# Altium footprint library ESPModule.PcbLib: 1 footprints
Each footprint in its own frame and in the unit in brackets; x right, y up, seen from the top. Pads: shape width x height; smd on the part's side, far side on the other; paste and mask are expansions set on the pad; w line width, h text height; cw(c..) or ccw(c..) is an arc to the next point about the centre after c.
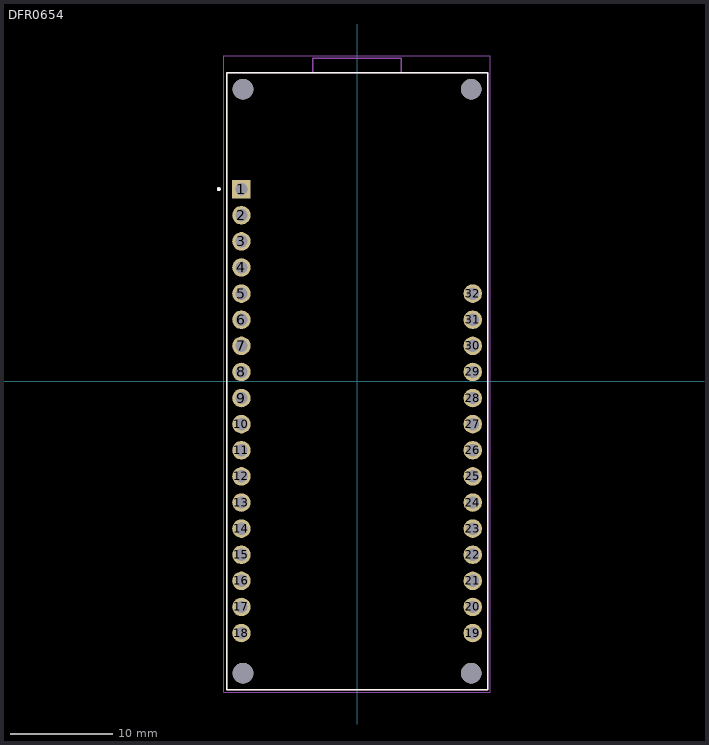
[diagram p0: the footprint, top view; thin cyan lines are the x and y axes]

## DFR0654 [mm] "FIREBEETLE ESP32-E IOT MICROCONT"
pads (36):
  rect 1.8x1.8 hole 1.2: 1(-11.25,18.68)
  round 1.8 hole 1.2: 2(-11.25,16.14) 3(-11.25,13.6) 4(-11.25,11.06) 5(-11.25,8.52) 6(-11.25,5.98) 7(-11.25,3.44) 8(-11.25,0.9) 9(-11.25,-1.64) 10(-11.25,-4.18) 11(-11.25,-6.72) 12(-11.25,-9.26) 13(-11.25,-11.8) 14(-11.25,-14.34) 15(-11.25,-16.88) 16(-11.25,-19.42) 17(-11.25,-21.96) 18(-11.25,-24.5) 19(11.25,-24.5) 20(11.25,-21.96) 21(11.25,-19.42) 22(11.25,-16.88) 23(11.25,-14.34) 24(11.25,-11.8) 25(11.25,-9.26) 26(11.25,-6.72) 27(11.25,-4.18) 28(11.25,-1.64) 29(11.25,0.9) 30(11.25,3.44) 31(11.25,5.98) 32(11.25,8.52)
  round 2 hole 2 unplated: ""(-11.1,-28.4) ""(-11.1,28.4) ""(11.1,-28.4) ""(11.1,28.4)
Top Overlay:
  circle w0.2: c-13.45,18.68 r0.1
  lines w0.127: -12.7,-30 -12.7,30 12.7,30 12.7,-30 -12.7,-30
Mechanical 13:
  circle w0.2: c-13.45,18.68 r0.1
  lines w0.127: -4.3,30 -12.7,30 -12.7,-30 12.7,-30 12.7,30 4.3,30 ; -4.3,30 -4.3,31.4 4.3,31.4 4.3,30 ; -4.3,30 4.3,30
Mechanical 15:
  lines w0.05: -12.95,-30.25 -12.95,31.65 12.95,31.65 12.95,-30.25 -12.95,-30.25
3D body "step_temp.STEP": height 12.2, standoff 5.1, extent -12.7,-30.319 12.7,31.081
3D body "18-Pin Header - Female - 2.54mm.step": height 5, standoff -3, extent -12.5,-26.02 -10,20.2
3D body "14-Pin Header - Female - 2.54mm.step": height 5, standoff -3, extent 10,-26.02 12.5,10.04